# Altium schematic symbol library power_supplies_ldo.SchLib: 24 symbols
Pins are listed as number, name and electrical type; pins without a type are passive.

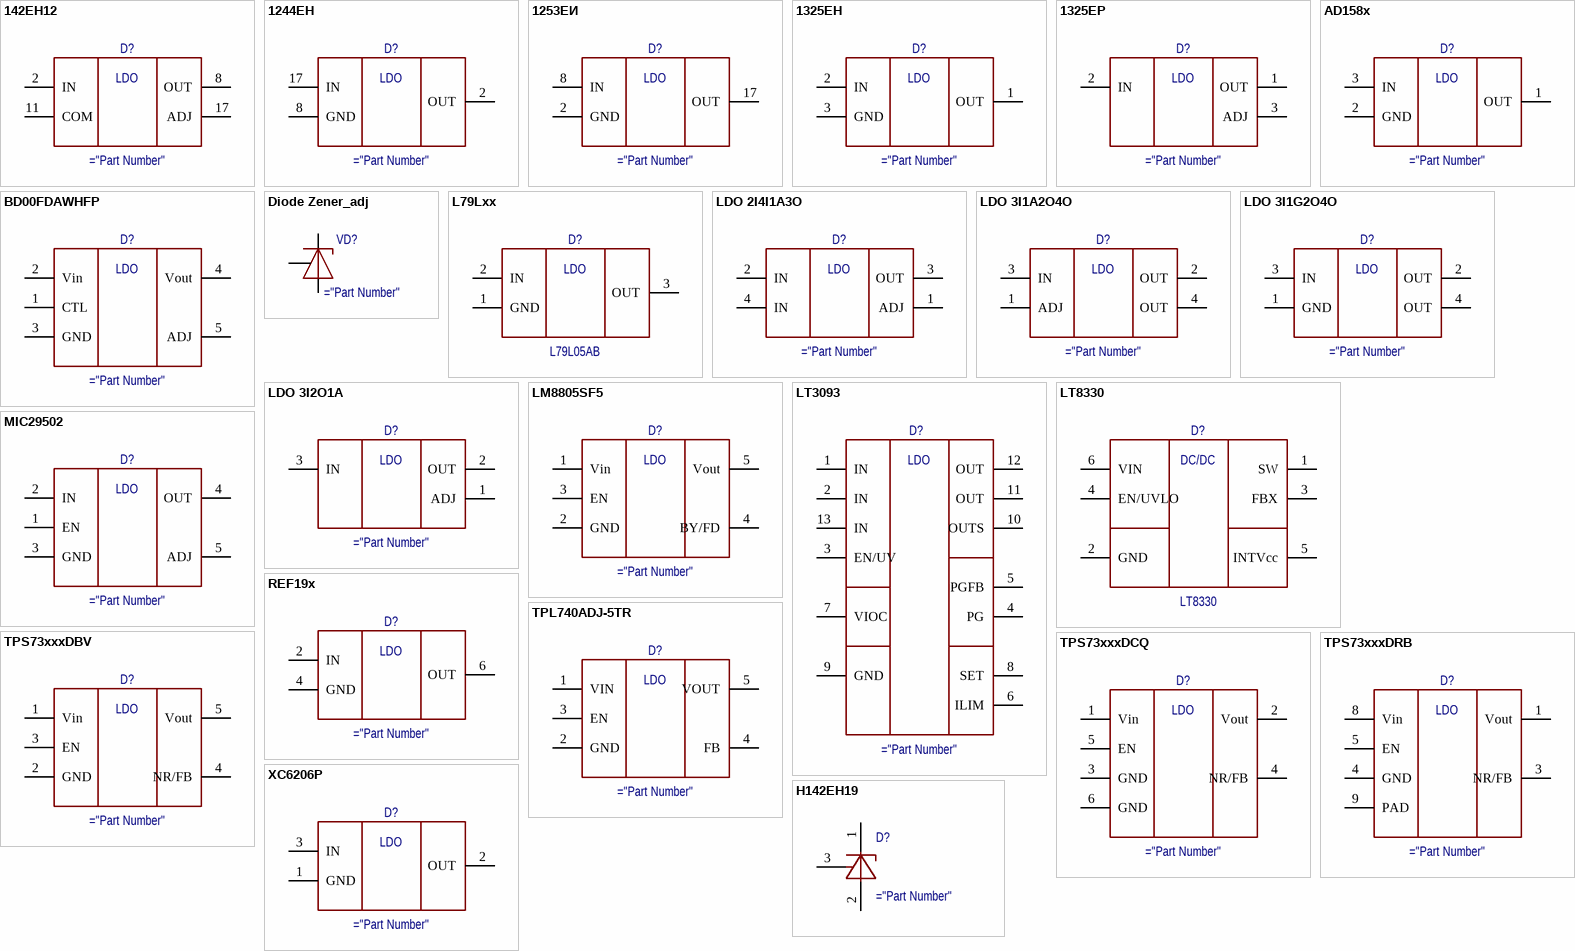
[diagram p0: symbols 142ЕН12 to Н142ЕН19]

## 142ЕН12
designator D?
LDO
pins: 2 IN, 8 OUT, 11 COM, 17 ADJ

## 1244ЕН
designator D?
LDO
pins: 2 OUT, 8 GND, 17 IN

## 1253ЕИ
designator D?
LDO
pins: 2 GND, 8 IN, 17 OUT

## 1325ЕН
designator D?
LDO
pins: 1 OUT, 2 IN, 3 GND

## 1325ЕР
designator D?
LDO
pins: 1 OUT, 2 IN, 3 ADJ

## AD158x
designator D?
LDO
pins: 1 OUT, 2 GND, 3 IN

## BD00FDAWHFP
designator D?
LDO 2A ADJ
pins: 1 CTL, 2 Vin, 3 GND, 4 Vout, 5 ADJ
text: LDO

## Diode Zener_adj
designator VD?
Стабилитрон регулируемый
pins: 1 Cathode, 2 Ref, 3 Anode

## L79Lxx
designator D?, comment L79L05AB
Manufacturer: STMicroelectronics; Size: SOT-89; Part Number: L79L05AB
pins: 1 GND, 2 IN, 3 OUT
text: LDO

## LDO 2I4I1A3O
designator D?
LDO Negative
pins: 1 ADJ, 2 IN, 3 OUT, 4 IN
text: LDO

## LDO 3I1A2O4O
designator D?
LDO
pins: 1 ADJ, 2 OUT, 3 IN, 4 OUT

## LDO 3I1G2O4O
designator D?
LDO
pins: 1 GND, 2 OUT, 3 IN, 4 OUT

## LDO 3I2O1A
designator D?
LDO
pins: 1 ADJ, 2 OUT, 3 IN

## LM8805SF5
designator D?
LDO 600mA SOT-23-5
pins: 1 Vin, 2 GND, 3 EN, 4 BY/FD, 5 Vout
text: LDO

## LT3093
designator D?
–20V, 200mA, Ultralow Noise, Ultrahigh / PSRR Negative Linear Regulator
pins: 1 IN, 2 IN, 3 EN/UV, 4 PG, 5 PGFB, 6 ILIM, 7 VIOC, 8 SET, 9 GND, 10 OUTS, 11 OUT, 12 OUT, 13 IN
text: LDO

## LT8330
designator D?
Low IQ Boost/SEPIC/ / Inverting Converter / with 1A, 60V Switch; Manufacturer: Analog Devices; Part Number: LT8330; Size: TSOT-23
pins: 1 SW, 2 GND, 3 FBX, 4 EN/UVLO, 5 INTVcc, 6 VIN
text: DC/DC

## MIC29502
designator D?
High-Current LDO
pins: 1 EN, 2 IN, 3 GND, 4 OUT, 5 ADJ
text: LDO

## REF19x
designator D?
Reference
pins: 2 IN, 4 GND, 6 OUT
text: LDO

## TPL740ADJ-5TR
designator D?
Adjustable (0.8 V ~ 5 V)
pins: 1 VIN, 2 GND, 3 EN, 4 FB, 5 VOUT
text: LDO

## TPS73xxxDBV
designator D?
LDO SOT-23-5
pins: 1 Vin, 2 GND, 3 EN, 4 NR/FB, 5 Vout
text: LDO

## TPS73xxxDCQ
designator D?
LDO SOT-223
pins: 1 Vin, 2 Vout, 3 GND, 4 NR/FB, 5 EN, 6 GND
text: LDO

## TPS73xxxDRB
designator D?
LDO SON-8
pins: 1 Vout, 3 NR/FB, 4 GND, 5 EN, 8 Vin, 9 PAD
text: LDO

## XC6206P
designator D?
LDO
pins: 1 GND, 2 OUT, 3 IN

## Н142ЕН19
designator D?
pins: 1 KAT, 2 AN, 3 REF, 4 NC hidden, 5 NC hidden, 6 NC hidden, 7 NC hidden, 8 NC hidden